# EAGLE library part RA04 (library divers)
Resistor array 4-fold
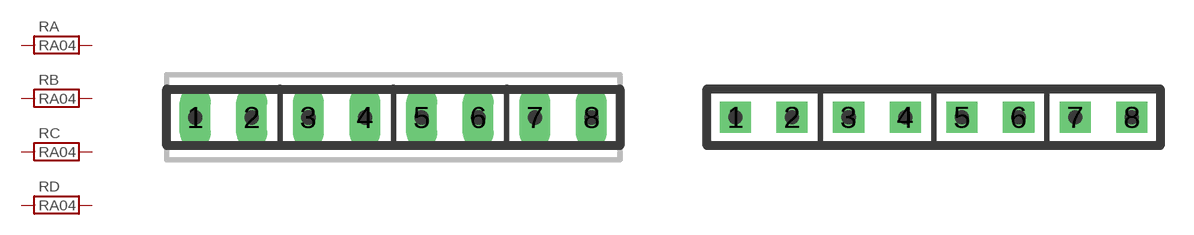
[diagram p10: symbol with the pads of RA04L; footprints RA04L, RA04R]

Designator prefix R; gates A=R B=R C=R D=R

## RA04L  [RA04L]
1  A:1  pas
2  A:2  pas
3  B:1  pas
4  B:2  pas
5  C:1  pas
6  C:2  pas
7  D:1  pas
8  D:2  pas

## RA04R  [RA04R]
Pads as for RA04L

## RA04N  [RA04N]
Pads as for RA04L

## RA04  [RA04L]
Pads as for RA04L

## Footprint RA04L (pad centres in mm)
Resistor array 4-fold, SIL, long pads
drill 0.813 pad 1.397 long: 1 -8.89,0; 2 -6.35,0; 3 -3.81,0; 4 -1.27,0; 5 1.27,0; 6 3.81,0; 7 6.35,0; 8 8.89,0

## Footprint RA04R (pad centres in mm)
Resistor array 4-fold, SIL, reduced pads
drill 0.813 pad 1.397 square: 1 -8.89,0; 2 -6.35,0; 3 -3.81,0; 4 -1.27,0; 5 1.27,0; 6 3.81,0; 7 6.35,0; 8 8.89,0

## Footprint RA04N (pad centres in mm)
Resistor array 4-fold, SIL
drill 0.813 pad 2.032 octagon: 1 -8.89,0; 2 -6.35,0; 3 -3.81,0; 4 -1.27,0; 5 1.27,0; 6 3.81,0; 7 6.35,0; 8 8.89,0